# EAGLE library part PIC18F2X31 (library jason-test)
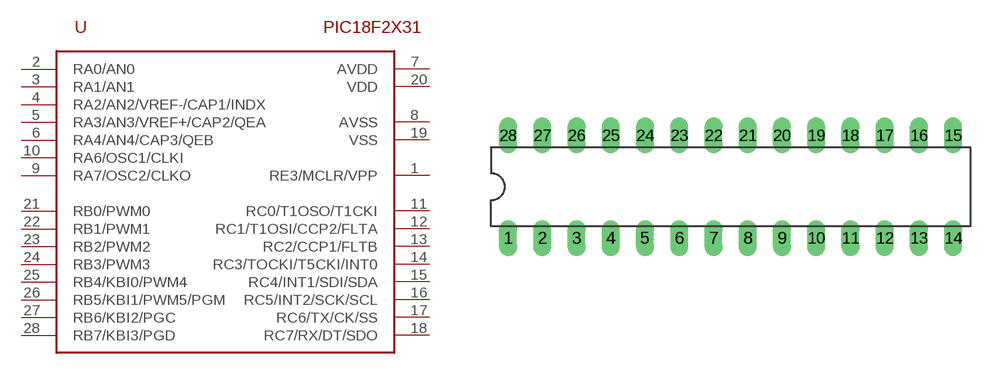
[diagram p18: symbol with the pads of DIL28-3; footprint DIL28-3]

Designator prefix -

## PIC18F2X31P  [DIL28-3]
1  RE3/MCLR/VPP  in
2  RA0/AN0
3  RA1/AN1
4  RA2/AN2/VREF-/CAP1/INDX
5  RA3/AN3/VREF+/CAP2/QEA
6  RA4/AN4/CAP3/QEB
7  AVDD  pwr
8  AVSS  pwr
9  RA7/OSC2/CLKO
10  RA6/OSC1/CLKI
11  RC0/T1OSO/T1CKI
12  RC1/T1OSI/CCP2/FLTA
13  RC2/CCP1/FLTB
14  RC3/TOCKI/T5CKI/INT0
15  RC4/INT1/SDI/SDA
16  RC5/INT2/SCK/SCL
17  RC6/TX/CK/SS
18  RC7/RX/DT/SDO
19  VSS  pwr
20  VDD  pwr
21  RB0/PWM0
22  RB1/PWM1
23  RB2/PWM2
24  RB3/PWM3
25  RB4/KBI0/PWM4
26  RB5/KBI1/PWM5/PGM
27  RB6/KBI2/PGC
28  RB7/KBI3/PGD

## Footprint DIL28-3 (pad centres in mm)
Dual In Line Package Small
drill 0.813 long: 1 -16.51,-3.81; 2 -13.97,-3.81; 3 -11.43,-3.81; 4 -8.89,-3.81; 5 -6.35,-3.81; 6 -3.81,-3.81; 7 -1.27,-3.81; 8 1.27,-3.81; 9 3.81,-3.81; 10 6.35,-3.81; 11 8.89,-3.81; 12 11.43,-3.81; 13 13.97,-3.81; 14 16.51,-3.81; 15 16.51,3.81; 16 13.97,3.81; 17 11.43,3.81; 18 8.89,3.81; 19 6.35,3.81; 20 3.81,3.81; 21 1.27,3.81; 22 -1.27,3.81; 23 -3.81,3.81; 24 -6.35,3.81; 25 -8.89,3.81; 26 -11.43,3.81; 27 -13.97,3.81; 28 -16.51,3.81